# Altium footprint library PcbLib1.PcbLib: 3 footprints
Each footprint in its own frame and in the unit in brackets; x right, y up, seen from the top. Pads: shape width x height; smd on the part's side, far side on the other; paste and mask are expansions set on the pad; w line width, h text height; cw(c..) or ccw(c..) is an arc to the next point about the centre after c.
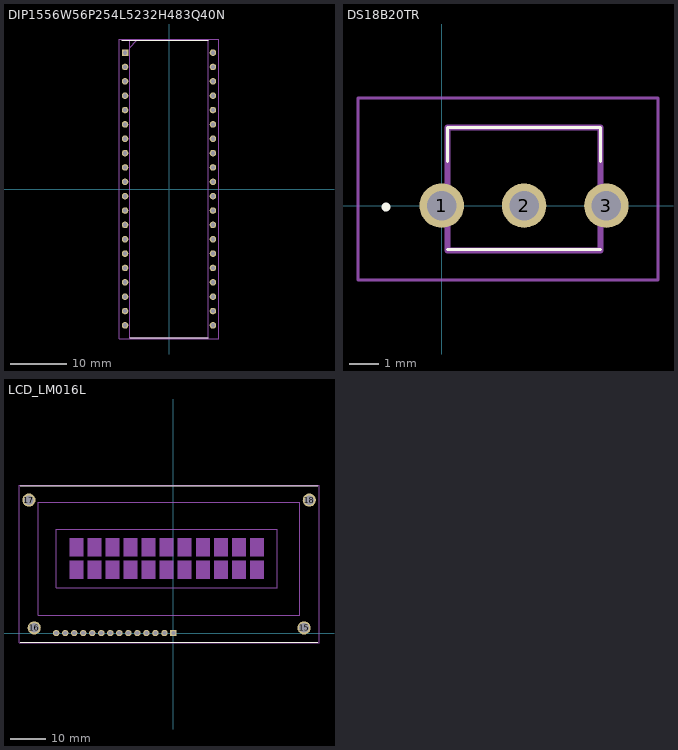
[diagram p0: the footprints below, top view; thin cyan lines are the x and y axes]

## DIP1556W56P254L5232H483Q40N [mil]
pads (40):
  rect 45.63x45.63 hole 29.88: 1(-306.26,950)
  round 45.63 hole 29.88: 2(-306.26,850) 3(-306.26,750) 4(-306.26,650) 5(-306.26,550) 6(-306.26,450) 7(-306.26,350) 8(-306.26,250) 9(-306.26,150) 10(-306.26,50) 11(-306.26,-50) 12(-306.26,-150) 13(-306.26,-250) 14(-306.26,-350) 15(-306.26,-450) 16(-306.26,-550) 17(-306.26,-650) 18(-306.26,-750) 19(-306.26,-850) 20(-306.26,-950) 21(306.26,-950) 22(306.26,-850) 23(306.26,-750) 24(306.26,-650) 25(306.26,-550) 26(306.26,-450) 27(306.26,-350) 28(306.26,-250) 29(306.26,-150) 30(306.26,-50) 31(306.26,50) 32(306.26,150) 33(306.26,250) 34(306.26,350) 35(306.26,450) 36(306.26,550) 37(306.26,650) 38(306.26,750) 39(306.26,850) 40(306.26,950)
Top Overlay:
  lines w7.87: -329.06,1035 275,1035 ; -275,-1035 275,-1035
Mechanical 13:
  lines w3.94: -275,985 -225,1035 ; -275,-1035 275,-1035 275,1035 -275,1035 -275,-1035
Mechanical 15:
  lines w1.97: -345.16,-1044.84 345.16,-1044.84 345.16,1044.84 -345.16,1044.84 -345.16,-1044.84
3D body "ATMEGA16L-8PI.stp": height 190, standoff -137.8, extent -311.75,-1030 311.75,1030

## DS18B20TR [mm]
pads (3):
  round 1.512 hole 1.008: 1(0,0) 2(2.8,0) 3(5.6,0)
Top Overlay:
  lines w0.1: 0.195,2.66 0.195,1.5 0.195,2.66 ; 0.195,2.66 5.405,2.66 ; 0.195,2.66 5.405,2.66 ; 5.405,2.66 5.405,1.5 5.405,2.66 ; 0.195,-1.5 5.405,-1.5 0.195,-1.5
  lines w0.2: -1.9,-0.1 ccw(c-1.9,-0.05) -1.9,0 ; -1.9,-0.1 cw(c-1.9,-0.05) -1.9,0 ; -1.9,-0.1 ccw(c-1.9,-0.05) -1.9,0
Mechanical 13:
  lines w0.2: 0.195,-1.53 5.405,-1.53 5.405,2.66 0.195,2.66 0.195,-1.53
Mechanical 15:
  lines w0.1: -2.85,-2.53 7.356,-2.53 7.356,3.66 -2.85,3.66 -2.85,-2.53
3D body "DS18B20+T&R.stp": height 10.51, standoff -5, extent -0.401,-1.53 6.004,2.66

## LCD_LM016L [mm]
pads (18):
  rect 1.8x1.8 hole 1.2: 1(0,0)
  round 1.8 hole 1.2: 2(-2.54,0) 3(-5.08,0) 4(-7.62,0) 5(-10.16,0) 6(-12.7,0) 7(-15.24,0) 8(-17.78,0) 9(-20.32,0) 10(-22.86,0) 11(-25.4,0) 12(-27.94,0) 13(-30.48,0) 14(-33.02,0)
  round 3.716 hole 2.7: 15(36.78,1.46) 16(-39.22,1.46) 17(-40.72,37.46) 18(38.28,37.46)
Top Overlay:
  lines w0.127: -43.18,-2.54 40.64,-2.54 ; -43.18,41.46 40.64,41.46
Mechanical 13:
  region: -25.4,21.604 -29.228,21.604 -29.228,26.67 -25.4,26.67
  region: -25.4,15.256 -29.24,15.256 -29.24,20.32 -25.4,20.32
  region: -20.32,21.612 -24.155,21.612 -24.155,26.67 -20.32,26.67
  region: -20.32,15.25 -24.146,15.25 -24.146,20.32 -20.32,20.32
  region: -15.24,21.593 -19.052,21.593 -19.052,26.67 -15.24,26.67
  region: -15.24,15.248 -19.06,15.248 -19.06,20.32 -15.24,20.32
  region: -10.16,21.626 -13.993,21.626 -13.993,26.67 -10.16,26.67
  region: -10.16,15.244 -13.974,15.244 -13.974,20.32 -10.16,20.32
  region: -5.08,21.625 -8.905,21.625 -8.905,26.67 -5.08,26.67
  region: -5.08,15.246 -8.894,15.246 -8.894,20.32 -5.08,20.32
  region: 0,21.627 -3.817,21.627 -3.817,26.67 0,26.67
  region: 0,15.267 -3.817,15.267 -3.817,20.32 0,20.32
  region: 5.08,21.618 1.272,21.618 1.272,26.67 5.08,26.67
  region: 5.08,15.245 1.27,15.245 1.27,20.32 5.08,20.32
  region: 10.16,21.62 6.359,21.62 6.359,26.67 10.16,26.67
  region: 10.16,15.261 6.359,15.261 6.359,20.32 10.16,20.32
  region: 15.24,21.597 11.434,21.597 11.434,26.67 15.24,26.67
  region: 15.24,15.263 11.447,15.263 11.447,20.32 15.24,20.32
  region: 20.32,21.611 16.526,21.611 16.526,26.67 20.32,26.67
  region: 20.32,15.264 16.536,15.264 16.536,20.32 20.32,20.32
  region: 25.4,21.608 21.608,21.608 21.608,26.67 25.4,26.67
  region: 25.4,15.254 21.61,15.254 21.61,20.32 25.4,20.32
  lines w0.127: -38.1,5.08 -38.1,36.83 35.56,36.83 35.56,5.08 -38.1,5.08 ; -33.02,12.7 -33.02,29.21 29.21,29.21 29.21,12.7 -33.02,12.7
Mechanical 15:
  lines w0.127: -43.5,-2.8 41,-2.8 41,41.7 -43.5,41.7 -43.5,-2.8